# Altium footprint library Transformer 220v to 48v.PcbLib: 1 footprints
Each footprint in its own frame and in the unit in brackets; x right, y up, seen from the top. Pads: shape width x height; smd on the part's side, far side on the other; paste and mask are expansions set on the pad; w line width, h text height; cw(c..) or ccw(c..) is an arc to the next point about the centre after c.
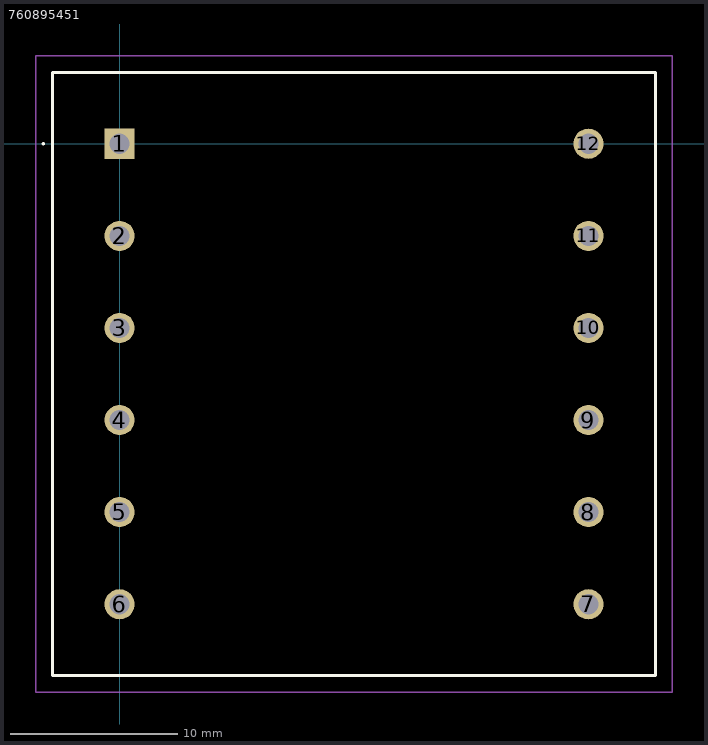
[diagram p0: the footprint, top view; thin cyan lines are the x and y axes]

## 760895451 [mm]
pads (12):
  rect 1.8x1.8 hole 1.2: 1(0,0)
  round 1.8 hole 1.2: 2(0,-5.5) 3(0,-11) 4(0,-16.5) 5(0,-22) 6(0,-27.5) 7(28,-27.5) 8(28,-22) 9(28,-16.5) 10(28,-11) 11(28,-5.5) 12(28,0)
Top Overlay:
  lines w0.1: -4.6,0 -4.6,0 ; -4.6,0 ccw(c-4.55,0) -4.5,0 ; -4.6,0 cw(c-4.55,0) -4.5,0 ; -4.5,0 -4.5,0
  lines w0.2: -4,-31.75 32,-31.75 32,4.25 -4,4.25 -4,-31.75
Mechanical 15:
  lines w0.1: -4,-31.75 32,-31.75 32,4.25 -4,4.25 -4,-31.75
Mechanical 20:
  lines w0.1: -5,-32.75 33,-32.75 33,5.25 -5,5.25 -5,-32.75